# Altium footprint library NCS_Wireless_Bed_Unit.PcbLib: 6 footprints
Each footprint in its own frame and in the unit in brackets; x right, y up, seen from the top. Pads: shape width x height; smd on the part's side, far side on the other; paste and mask are expansions set on the pad; w line width, h text height; cw(c..) or ccw(c..) is an arc to the next point about the centre after c.
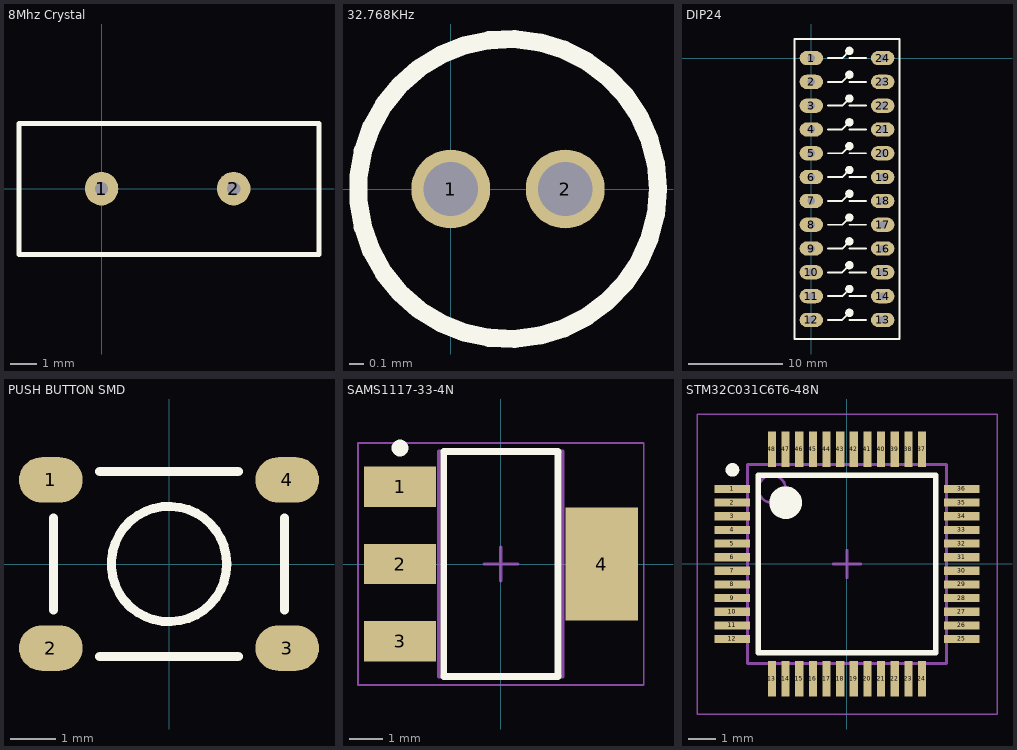
[diagram p0: the footprints below, top view; thin cyan lines are the x and y axes]

## 8Mhz Crystal [mm]
pads (2):
  round 1.27 hole 0.5: 1(0,0) 2(5,0)
Top Overlay:
  lines w0.2: -3.124,-2.489 8.23,-2.489 8.23,2.464 -3.124,2.464 -3.124,-2.489
3D body "xtalcrystal.SLDPRT": height 3.68, standoff -13.2, extent -3.135,-2.5 8.215,2.5

## 32.768KHz [mm]
pads (2):
  round 0.55 hole 0.38: 1(0,0) 2(0.8,0)
Top Overlay:
  circle w0.127: c0.4,0 r1.047
3D body "AB15T-32.768KHZ--3DModel-STEP-400430.STEP": height 5, standoff -4.3, extent -0.319,-0.7 1.081,0.7

## DIP24 [mm]
pads (24):
  oval 2.5x1.524 hole 0.8: 1(0,0) 2(0,-2.54) 3(0,-5.08) 4(0,-7.62) 5(0,-10.16) 6(0,-12.7) 7(0,-15.24) 8(0,-17.78) 9(0,-20.32) 10(0,-22.86) 11(0,-25.4) 12(0,-27.94) 13(7.62,-27.94) 14(7.62,-25.4) 15(7.62,-22.86) 16(7.62,-20.32) 17(7.62,-17.78) 18(7.62,-15.24) 19(7.62,-12.7) 20(7.62,-10.16) 21(7.62,-7.62) 22(7.62,-5.08) 23(7.62,-2.54) 24(7.62,0)
Top Overlay:
  circle w0.381: c4.064,-27.178 r0.254
  circle w0.381: c4.064,-19.558 r0.254
  circle w0.381: c4.064,-24.638 r0.254
  circle w0.381: c4.064,-22.098 r0.254
  circle w0.381: c4.064,-17.018 r0.254
  circle w0.381: c4.064,-14.478 r0.254
  circle w0.381: c4.064,-11.938 r0.254
  circle w0.381: c4.064,-9.398 r0.254
  circle w0.381: c4.064,-6.858 r0.254
  circle w0.381: c4.064,-4.318 r0.254
  circle w0.381: c4.064,-1.778 r0.254
  circle w0.381: c4.064,0.762 r0.254
  lines w0.2: 1.778,-27.94 2.794,-27.94 3.302,-27.94 4.064,-27.178 ; 1.778,-25.4 2.794,-25.4 3.302,-25.4 4.064,-24.638 ; 1.778,-22.86 2.794,-22.86 3.302,-22.86 4.064,-22.098 ; 1.778,-20.32 2.794,-20.32 3.302,-20.32 4.064,-19.558 ; 1.778,-17.78 2.794,-17.78 3.302,-17.78 4.064,-17.018 ; 1.778,-15.24 2.794,-15.24 3.302,-15.24 4.064,-14.478 ; 1.778,-12.7 2.794,-12.7 3.302,-12.7 4.064,-11.938 ; 1.778,-10.16 2.794,-10.16 3.302,-10.16 4.064,-9.398 ; 1.778,-7.62 2.794,-7.62 3.302,-7.62 4.064,-6.858 ; 1.778,-5.08 2.794,-5.08 3.302,-5.08 4.064,-4.318 ; 1.778,-2.54 2.794,-2.54 3.302,-2.54 4.064,-1.778 ; 1.778,0 2.794,0 3.302,0 4.064,0.762 ; 4.064,-27.94 5.842,-27.94 ; 4.064,-25.4 5.842,-25.4 ; 4.064,-22.86 5.842,-22.86 ; 4.064,-20.32 5.842,-20.32 ; 4.064,-17.78 5.842,-17.78 ; 4.064,-15.24 5.842,-15.24 ; 4.064,-12.7 5.842,-12.7 ; 4.064,-10.16 5.842,-10.16 ; 4.064,-7.62 5.842,-7.62 ; 4.064,-5.08 5.842,-5.08 ; 4.064,-2.54 5.842,-2.54 ; 4.064,0 5.842,0 ; -1.778,-29.972 9.398,-29.972 9.398,-10.16 9.398,2.032 -1.778,2.032 -1.778,-29.972
3D body "DS1040-12 (DIP_switch).stp": height 6.8, standoff -3.85, extent -1.14,-29.94 8.76,2

## PUSH BUTTON SMD [mm]
pads (4):
  oval 1.4x1 smd: 1(-2.6,1.85) 2(-2.6,-1.85) 3(2.6,-1.85) 4(2.6,1.85)
Top Overlay:
  circle w0.2: c0,0 r1.27
  lines w0.2: -2.54,-1.016 -2.54,1.016 ; -1.524,-2.032 0,-2.032 1.524,-2.032 ; -1.524,2.032 0,2.032 1.524,2.032 ; 2.54,-1.016 2.54,1.016 2.54,0
3D body "tact_switch_3mm.stp": height 3, standoff 0, extent -3.174,-2.519 3.226,2.681

## SAMS1117-33-4N [mm] "SOT223, 4-Leads, Body 6.50x7.00mm (avg), Pitch 2.30mm, IPC Medium Density"
height 1.8
pads (4):
  rect 2.15x1.2 smd: 1(-3,2.3) 2(-3,0) 3(-3,-2.3)
  rect 2.15x3.35 smd: 4(3,0)
Top Overlay:
  circle w0.25: c-3,3.45 r0.125
  lines w0.2: -1.7,-3.35 -1.7,3.35 1.7,3.35 1.7,-3.35 -1.7,-3.35
Mechanical 13:
  lines w0.1: -1.85,-3.35 -1.85,3.35 1.85,3.35 1.85,-3.35 -1.85,-3.35
Mechanical 15:
  lines w0.05: -4.25,-3.6 -4.25,3.6 4.25,3.6 4.25,-3.6 -4.25,-3.6
  lines w0.1: -0.5,0 0.5,0 ; 0,-0.5 0,0.5
3D body "SAMS1117-33-4N.step": height 1.8, standoff 0, extent -3.5,-3.35 3.5,3.35

## STM32C031C6T6-48N [mm] "TSQFP, 48-Leads, Body 7.30x7.30mm, Pitch 0.50mm, IPC Medium Density"
height 1.6
pads (48):
  rect 1.3x0.3 smd: 1(-4.2,2.75) 2(-4.2,2.25) 3(-4.2,1.75) 4(-4.2,1.25) 5(-4.2,0.75) 6(-4.2,0.25) 7(-4.2,-0.25) 8(-4.2,-0.75) 9(-4.2,-1.25) 10(-4.2,-1.75) 11(-4.2,-2.25) 12(-4.2,-2.75) 25(4.2,-2.75) 26(4.2,-2.25) 27(4.2,-1.75) 28(4.2,-1.25) 29(4.2,-0.75) 30(4.2,-0.25) 31(4.2,0.25) 32(4.2,0.75) 33(4.2,1.25) 34(4.2,1.75) 35(4.2,2.25) 36(4.2,2.75)
  rect 0.3x1.3 smd: 13(-2.75,-4.2) 14(-2.25,-4.2) 15(-1.75,-4.2) 16(-1.25,-4.2) 17(-0.75,-4.2) 18(-0.25,-4.2) 19(0.25,-4.2) 20(0.75,-4.2) 21(1.25,-4.2) 22(1.75,-4.2) 23(2.25,-4.2) 24(2.75,-4.2) 37(2.75,4.2) 38(2.25,4.2) 39(1.75,4.2) 40(1.25,4.2) 41(0.75,4.2) 42(0.25,4.2) 43(-0.25,4.2) 44(-0.75,4.2) 45(-1.25,4.2) 46(-1.75,4.2) 47(-2.25,4.2) 48(-2.75,4.2)
Top Overlay:
  circle w0.25: c-4.2,3.45 r0.125
  circle w0.6: c-2.25,2.25 r0.3
  lines w0.2: -3.25,-3.25 -3.25,3.25 3.25,3.25 3.25,-3.25 -3.25,-3.25
Mechanical 13:
  circle w0.1: c-2.75,2.75 r0.5
  lines w0.1: -3.65,-3.65 -3.65,3.65 3.65,3.65 3.65,-3.65 -3.65,-3.65
Mechanical 15:
  lines w0.05: -5.5,-5.5 -5.5,5.5 5.5,5.5 5.5,-5.5 -5.5,-5.5
  lines w0.1: -0.5,0 0.5,0 ; 0,-0.5 0,0.5
3D body "STM32C031C6T6.STEP": height 1.6, standoff 0, extent -4.5,-4.5 4.5,4.5